# EAGLE library part ISO1050 (library ORBiT-IC-CAN-DRIVER)
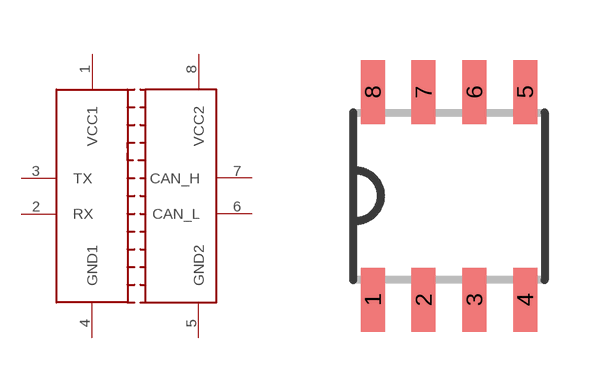
[diagram p0: symbol with the pads of SOP8; footprint SOP8]

Designator prefix -

## ISO1050  [SOP8]
1  VCC1  pwr
2  RX
3  TX
4  GND1  pwr
5  GND2  pwr
6  CAN_L  pwr
7  CAN_H  pwr
8  VCC2  pwr

## Footprint SOP8 (pad centres in mm)
SOP8 Source: http://www.rohm.com/products/databook/motor/pdf/bd623x_series-e.pdf
smd 0.6 x 1.6: 1 -1.905,-2.6; 2 -0.635,-2.6; 3 0.635,-2.6; 4 1.905,-2.6; 5 1.905,2.6; 6 0.635,2.6; 7 -0.635,2.6; 8 -1.905,2.6